# EAGLE library part TSM983ESE+T (library ECE532_Parts)
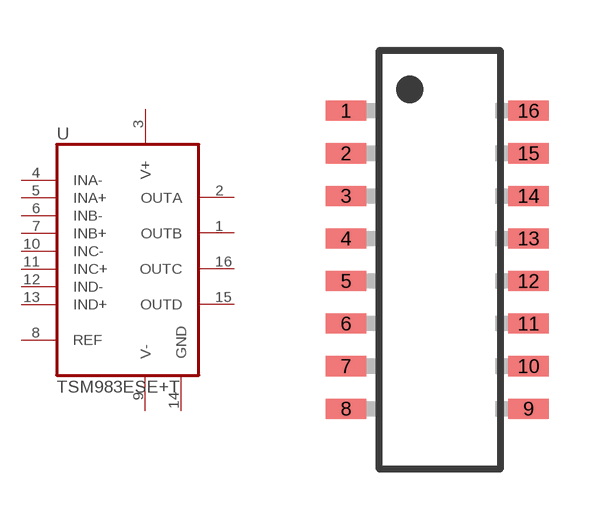
[diagram p0: symbol with the pads of TSM983ESE+T; footprint TSM983ESE+T]

Designator prefix -

## TSM983ESE+T  [TSM983ESE+T]
1  OUTB  out
2  OUTA  out
3  V+  in
4  INA-  in
5  INA+  in
6  INB-  in
7  INB+  in
8  REF  in
9  V-  in
10  INC-  in
11  INC+  in
12  IND-  in
13  IND+  in
14  GND
15  OUTD
16  OUTC  out

## Footprint TSM983ESE+T (pad centres in mm)
smd 1.2 x 0.6: 1 -4.445,4.445; 2 -4.445,3.175; 3 -4.445,1.905; 4 -4.445,0.635; 5 -4.445,-0.635; 6 -4.445,-1.905; 7 -4.445,-3.175; 8 -4.445,-4.445; 9 0.995,-4.445; 10 0.995,-3.175; 11 0.995,-1.905; 12 0.995,-0.635; 13 0.995,0.635; 14 0.995,1.905; 15 0.995,3.175; 16 0.995,4.445